# Altium footprint library Bran.PcbLib: 102 footprints (part 7 of 7)
Each footprint in its own frame and in the unit in brackets; x right, y up, seen from the top. Pads: shape width x height; smd on the part's side, far side on the other; paste and mask are expansions set on the pad; w line width, h text height; cw(c..) or ccw(c..) is an arc to the next point about the centre after c.
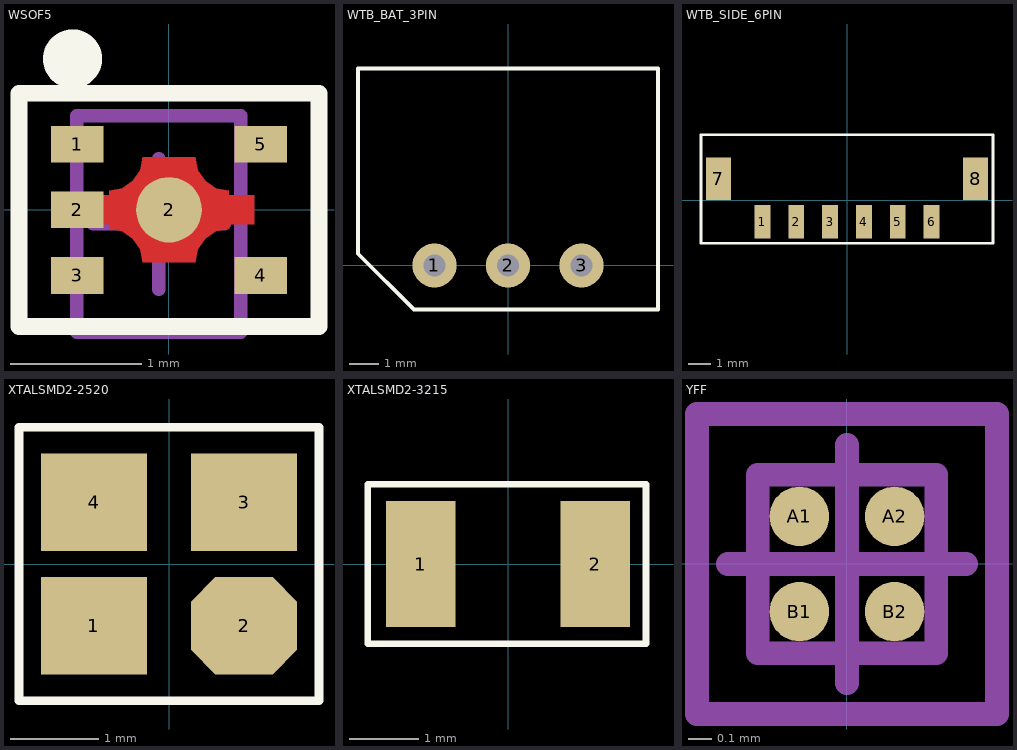
[diagram p6: the footprints below, top view; thin cyan lines are the x and y axes]

## WSOF5 [mm]
pads (6):
  rect 0.4x0.28 smd: 1(-0.7,0.5) 2(-0.7,0) 3(-0.7,-0.5) 4(0.7,-0.5) 5(0.7,0.5)
  round 0.5 smd: 2(0,0)
Top Layer:
  region: -0.455,0.145 -0.357,0.165 -0.275,0.22 -0.22,0.302 -0.2,0.4 -0.205,0.4 0.205,0.4 0.2,0.4 0.22,0.302 0.275,0.22 0.357,0.165 0.455,0.145 0.455,0.15 0.455,0.11 0.65,0.11 0.65,-0.11 0.455,-0.11 0.455,-0.145 0.357,-0.165 0.275,-0.22 0.22,-0.302 0.2,-0.4 0.205,-0.4 -0.2,-0.4 -0.219,-0.302 -0.275,-0.22 -0.357,-0.165 -0.455,-0.145 -0.455,-0.15 -0.455,-0.11 -0.85,-0.11 -0.85,0.11 -0.455,0.11
Top Overlay:
  circle w0.25: c-0.735,1.15 r0.1
  lines w0.127: -1.143,-0.889 -1.143,0.889 1.143,0.889 1.143,-0.889 -1.143,-0.889
Top Paste:
  region: -0.455,0.145 -0.357,0.165 -0.275,0.22 -0.22,0.302 -0.2,0.4 -0.205,0.4 0.205,0.4 0.2,0.4 0.22,0.302 0.275,0.22 0.357,0.165 0.455,0.145 0.455,0.15 0.455,0.11 0.65,0.11 0.65,-0.11 0.455,-0.11 0.455,-0.145 0.357,-0.165 0.275,-0.22 0.22,-0.302 0.2,-0.4 0.205,-0.4 -0.2,-0.4 -0.219,-0.302 -0.275,-0.22 -0.357,-0.165 -0.455,-0.145 -0.455,-0.15 -0.455,-0.11 -0.85,-0.11 -0.85,0.11 -0.455,0.11
Top Solder:
  region: -0.455,0.145 -0.357,0.165 -0.275,0.22 -0.22,0.302 -0.2,0.4 -0.205,0.4 0.205,0.4 0.2,0.4 0.22,0.302 0.275,0.22 0.357,0.165 0.455,0.145 0.455,0.15 0.455,0.11 0.65,0.11 0.65,-0.11 0.455,-0.11 0.455,-0.145 0.357,-0.165 0.275,-0.22 0.22,-0.302 0.2,-0.4 0.205,-0.4 -0.2,-0.4 -0.219,-0.302 -0.275,-0.22 -0.357,-0.165 -0.455,-0.145 -0.455,-0.15 -0.455,-0.11 -0.85,-0.11 -0.85,0.11 -0.455,0.11
Mechanical 13:
  lines w0.1: -0.703,-0.933 0.547,-0.933 0.547,0.717 -0.703,0.717 -0.703,-0.933
Mechanical 15:
  lines w0.1: -0.578,-0.108 0.422,-0.108 ; -0.078,-0.608 -0.078,0.392
3D body: height 0.6, standoff 0, extent -1.002,-0.742 1.002,0.742

## WTB_BAT_3PIN [mm] "厂家：JST，型号：S3B-EH"
pads (3):
  round 1.5 hole 0.74: 1(-2.5,0) 2(0,0) 3(2.5,0)
Top Overlay:
  lines w0.127: -5.1,0.401 -5.1,6.7 5.1,6.7 5.1,-1.5 -3.199,-1.5 -5.1,0.401

## WTB_SIDE_6PIN [mm] "厂家：瀚荃，型号：CI1506M1HR0-NH"
pads (8):
  rect 0.7x1.5 smd: 1(-3.75,-0.953) 2(-2.25,-0.953) 3(-0.75,-0.953) 4(0.75,-0.953) 5(2.25,-0.953) 6(3.75,-0.953)
  rect 1.1x1.9 smd: 7(-5.7,0.953) 8(5.7,0.953)
Top Overlay:
  lines w0.127: -6.477,-1.905 6.477,-1.905 6.477,2.903 -6.477,2.903 -6.477,-1.905

## XTALSMD2-2520 [mm]
pads (4):
  rect 1.2x1.1 smd: 1(-0.85,-0.7) 3(0.85,0.7) 4(-0.85,0.7)
  oct 1.2x1.1 smd: 2(0.85,-0.7)
Top Overlay:
  lines w0.1: 1.676,-1.549 -1.7,-1.549 -1.7,1.55 1.7,1.55 1.7,-1.55
3D body: height 0.55, standoff 0, extent -1.552,-1.352 1.552,1.352

## XTALSMD2-3215 [mm]
pads (2):
  rect 1x1.8 smd: 1(-1.25,0) 2(1.25,0)
Top Overlay:
  lines w0.1: -2.01,-1.143 -2.01,1.143 1.976,1.143 1.976,-1.143 -2.01,-1.143
3D body: height 0.9, standoff 0, extent -1.852,-1.002 1.852,1.002

## YFF [mm] "BGA, 4-Leads, Body 0.8x0.8mm,  Pitch 0.40mm"
height 0.625
pads (4):
  round 0.25 smd: A1(-0.2,0.2) A2(0.2,0.2) B1(-0.2,-0.2) B2(0.2,-0.2)
Mechanical 13:
  lines w0.1: -0.375,-0.375 -0.375,0.375 0.375,0.375 0.375,-0.375 -0.375,-0.375
Mechanical 15:
  lines w0.1: -0.5,0 0.5,0 ; 0,-0.5 0,0.5 ; -0.63,-0.63 -0.63,0.63 0.63,0.63 0.63,-0.63 -0.63,-0.63
3D body: height 0.63, standoff 0.3, extent -0.375,-0.375 0.375,0.375